# Altium schematic symbol library Schlib1.SchLib: 5 symbols
Pins are listed as number, name and electrical type; pins without a type are passive.

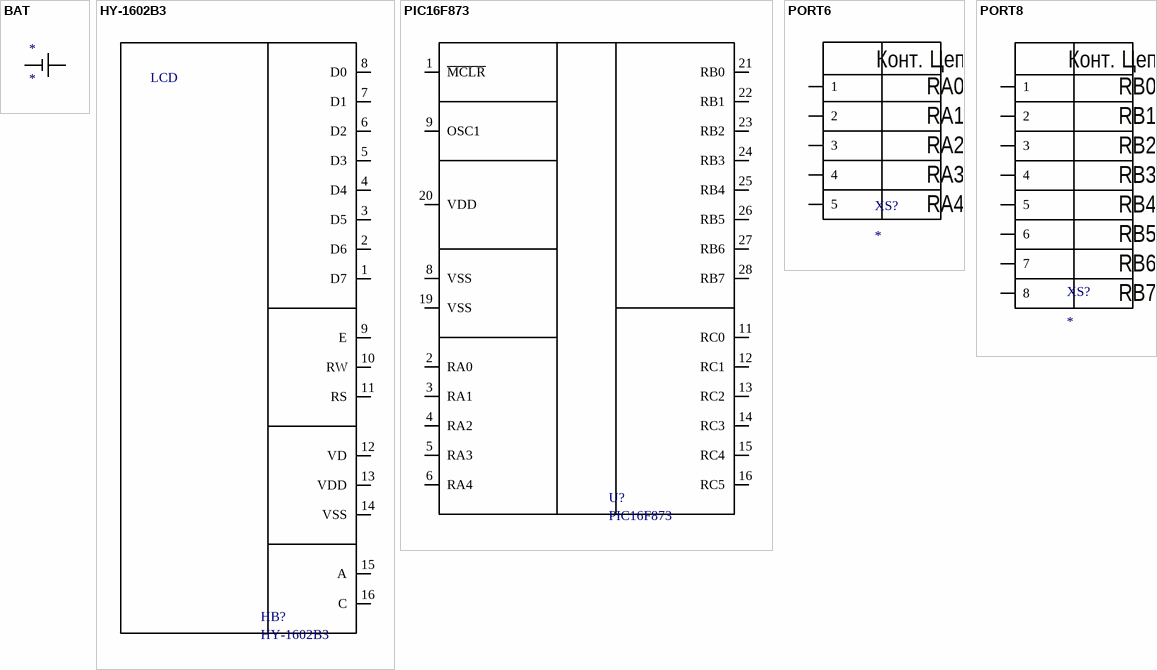
[diagram p0: symbols BAT to PORT8]

## BAT
designator *
pins: 1, 2

## HY-1602B3
designator HB?
pins: 1 D7, 2 D6, 3 D5, 4 D4, 5 D3, 6 D2, 7 D1, 8 D0, 9 E, 10 RW, 11 RS, 12 VD, 13 VDD, 14 VSS, 15 A, 16 C
text: LCD

## PIC16F873
designator U?
pins: 1 ~{MCLR}, 2 RA0, 3 RA1, 4 RA2, 5 RA3, 6 RA4, 8 VSS, 9 OSC1, 11 RC0, 12 RC1, 13 RC2, 14 RC3, 15 RC4, 16 RC5, 19 VSS, 20 VDD, 21 RB0, 22 RB1, 23 RB2, 24 RB3, 25 RB4, 26 RB5, 27 RB6, 28 RB7

## PORT6
designator XS?
pins: 1, 2, 3, 4, 5
text: Конт.; Цепь; RA0; RA1; RA2; RA3; RA4

## PORT8
designator XS?
pins: 1, 2, 3, 4, 5, 6, 7, 8
text: Конт.; Цепь; RB0; RB1; RB2; RB3; RB4; RB5; RB6; RB7